# EAGLE library part AT45DB081D (library My Library)
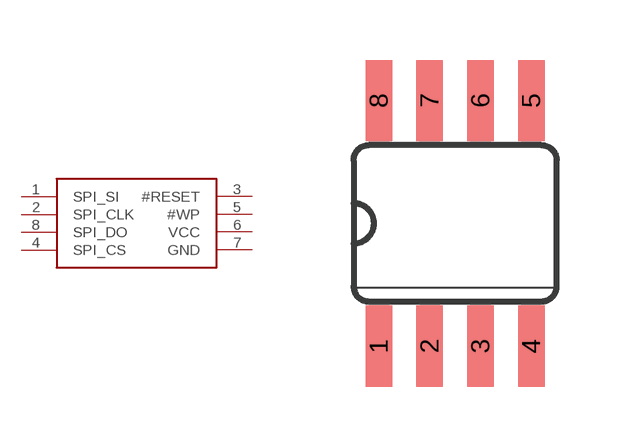
[diagram p17: symbol with the pads of SO08; footprint SO08]

Designator prefix -

## AT45DB081D  [SO08]
1  SPI_SI
2  SPI_CLK
3  #RESET
4  SPI_CS
5  #WP
6  VCC
7  GND
8  SPI_DO

## Footprint SO08 (pad centres in mm)
Small Outline Package SO-8, CASE 751
smd 0.66 x 2.032: 1 -1.905,-3.073; 2 -0.635,-3.073; 3 0.635,-3.073; 4 1.905,-3.073; 5 1.905,3.073; 6 0.635,3.073; 7 -0.635,3.073; 8 -1.905,3.073